# Altium schematic symbol library Relays_Switches_SMPS.SchLib: 7 symbols
Pins are listed as number, name and electrical type; pins without a type are passive.

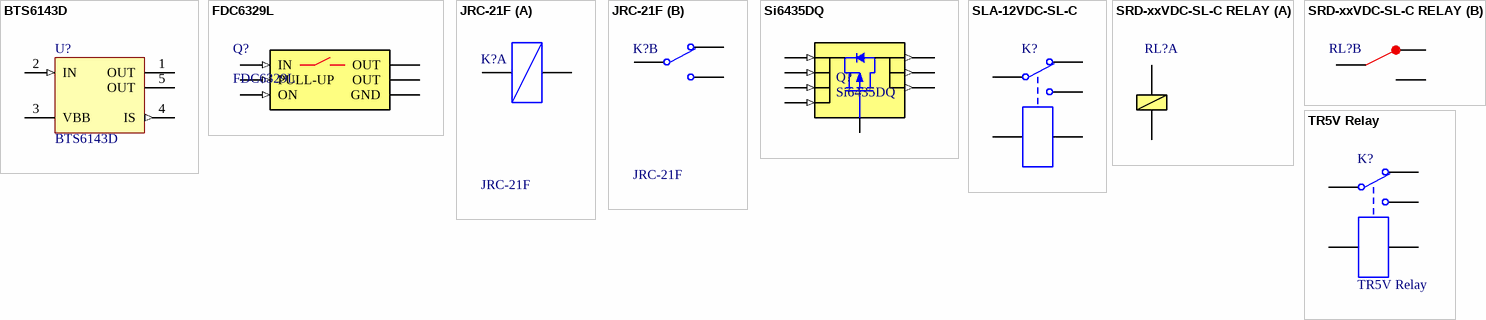
[diagram p0: symbols BTS6143D to TR5V Relay]

## BTS6143D
designator U?
PROFET Smart Highside Power Switch, 1 Channel, 10 A Load Current, -40 to 150 degC, PG-TO252-5-11, Reel, Green; Manufacturer: Infineon; Recommended Operating Voltage Min.: 5.5 V; RON(max) @ 150degreesC: 18 mOhm; toff (max): 500 us; Load Current (typ): 10 A; RON @ 25degreesC: 10 mOhm; Recommended Operating Voltage Max.: 38 V; Green: TRUE; Ptot (max): 59 W; Group: Automotive Qualified; Channels: 1; Packing: Reel; ComponentLink1URL: http://www.infineon.com/; PartNumber: BTS6143D; Mounting Technology: Surface Mount; ComponentLink2Description: Datasheet; ComponentLink3URL: http://www.infineon.com/dgdl/TLE7276-Data+Sheet-+v1_11.pdf?folderId=db3a304412b407950112b408e8c90004&fileId=db3a304412b407950112b436c53f66c8&sId=db3a30433db6f09f013dc0e43c0428c1; ComponentLink3Description: Package Specification; ComponentLink2URL: http://www.infineon.com/dgdl/BTS6143D_DS_v10.pdf?folderId=db3a304314dca389011537739e37155f&fileId=db3a3043183a95550118606a2705368e&location=en.Products.Automotive_ICs.Smart_High-_and_Low-Side_Switches.PROFET__-_Smart_High_Side_Switches.DATASHEET.BTS6143D_D; ComponentLink1Description: Manufacturer URL; PackageVersion: Nov-10; PackageDescription: 5-Pin Plastic (Green) Transistor Single Outline Package, 6.5 x 6.12 mm Body, 1.14 mm Pitch; Halogen-free: TRUE; DatasheetVersion: Rev. 1.0; PackageReference: PG-TO252-5-11; ton (max): 500 us
footprint ITO252-5-11_M (DPAK, 5-Leads, Body 6.5x6.12mm, Pitch 1.14mm, IPC Low Density)
pins: 1 OUT (hiz) "Output; output to the load; pin 1 and 5 must be externally shorted.", 2 IN (in) "Input; activates the power switch if shorted to ground.", 3 VBB (power) "Supply Voltage; positive power supply voltage; tab and pin 3 are internally shorted.", 4 IS (out) "Sense Output; Diagnostic feedback; provides at normal operation a sense current proportional to the load current; in case of overload, overtemperature and/or short circuit a defined current is provided.", 5 OUT (hiz) "Output; output to the load; pin 1 and 5 must be externally shorted."

## FDC6329L
designator Q?
2A Integrated Load Switch SuperSOT-6 SMD
footprint SuperSOT-6 (SOT23, 6-Leads, Body 2,92x2,84mm, Pitch 0,95mm, IPC Medium Density)
pins: 1 GND (power), 2 OUT (power), 3 OUT (power), 4 IN (in), 5 ON (in), 6 PULL-UP (in)

## JRC-21F
designator K?
Single-Pole Dual-Throw Relay; Coil Voltage: 12V; Max Current: 3A
simulation model SPDTRELAY (Spice Subcircuit)
footprint JRC-21F (PCB Relay)
part A pins: C1 4, C2 5
part B pins: COM 1, NC 2, NO 3

## Si6435DQ
designator Q?
4A P-Channel Enhancement-Mode MOSFET
footprint TSSOP8 Low profile (TSOP, 8-Leads, Body 3,00x4,40mm, Pitch 0,65mm, IPC Medium Density)
pins: 1 D (out), 2 S (in), 3 S (in), 4 G, 5 D (out), 6 S (in), 7 S (in), 8 D (out)

## SLA-12VDC-SL-C
designator K?  (value not drawn)
30A 12VDC SPST PCB Power relay; Max current: 30A; Coil voltage: 12VDC
footprint SLA-12VDC-SL-C (PCB mount, high-current relay)
pins: C1, C2, COM, NC, NO

## SRD-xxVDC-SL-C RELAY
designator RL?, comment 10A RELAY PCB  (value not drawn)
5,12,24VDC 10A PCB Relay
footprint RELAY C4
footprint SRD-xxVDC-SL-C (Relay)
part A pins: C1, C2
part B pins: COM, NC, NO

## TR5V Relay
designator K?
Single-Pole Dual-Throw Relay; Published: 24-Mar-1999; LatestRevisionDate: 17-Jul-2002; LatestRevisionNote: Re-released for DXP Platform.; PackageReference: MODULE5B; Publisher: Altium Limited
simulation model SPDTRELAY (Spice Subcircuit)
footprint TR5V (TR5V Relay)
pins: COIL0 4, COIL1 5, COM 1, NC 2, NO 3